# EAGLE library part DF17(*)-80DS-0.5V(57) (library Jack-connectors)
HIROSE DF17 series- 0,5 mm pitch, 80 pins board-to-board connector - Receptacle This connectors are available in different heighst Total height Part number 4 mm DF17(3.0H)-80DS-0.5V(57) 5 mm, 5.5 mm, 7 mm DF17(3.0)-80DS-0.5V(57) 6 mm, 6.5 mm, 8 mm DF17(4.0)-80DS-0.5V(57) !!!Warning!!! - Under connetor can't be placed any tracks or vias without resist, it could touch the connector contacts
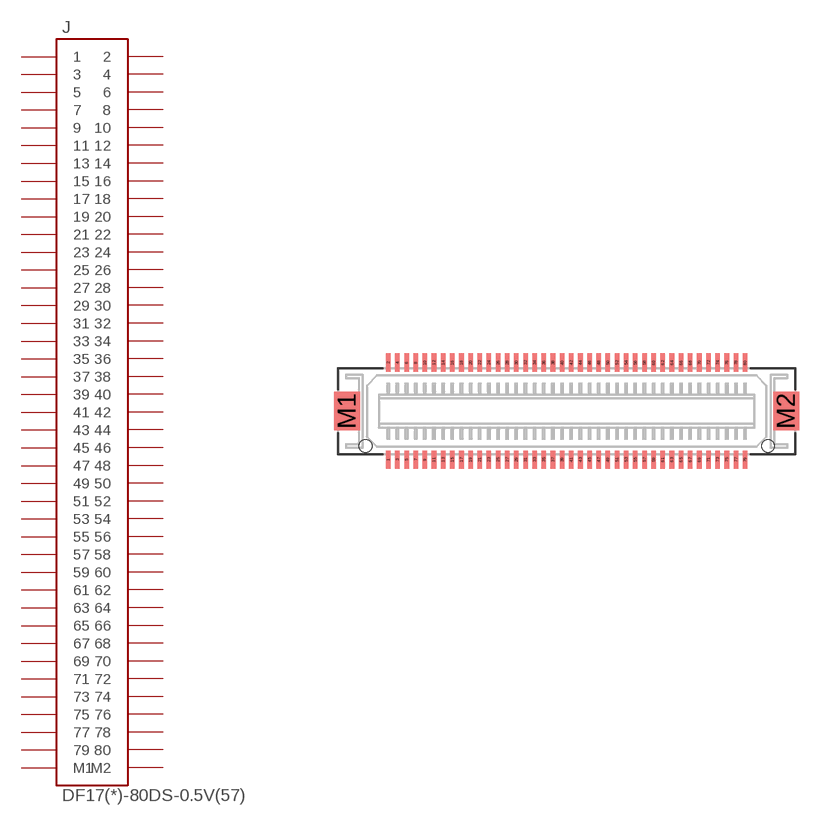
[diagram p3: symbol with the pads of DF17(XX)-80DS-0.5V; footprint DF17(XX)-80DS-0.5V]

Designator prefix J

## DF17(3.0)-80DS-0.5V(57) (DESCRIPTION: Board-to-Board connector, 0.5 mm pitch, 80 pins, 5/5.5/7 mm height, receptacle; PACK: DF17(XX)-80DS-0.5V), DF17(3.0H)-80DS-0.5V(57) (DESCRIPTION: Board-to-Board connector, 0.5 mm pitch, 80 pins, 4 mm height, receptacle; PACK: DF17(XX)-80DS-0.5V), DF17(4.0)-80DS-0.5V(57) (DESCRIPTION: Board-to-Board connector, 0.5 mm pitch, 80 pins, 6/6.5/8 mm height, receptacle; PACK: DF17(XX)-80DS-0.5V)  [DF17(XX)-80DS-0.5V]
1  1  pas
2  2  pas
3  3  pas
4  4  pas
5  5  pas
6  6  pas
7  7  pas
8  8  pas
9  9  pas
10  10  pas
11  11  pas
12  12  pas
13  13  pas
14  14  pas
15  15  pas
16  16  pas
17  17  pas
18  18  pas
19  19  pas
20  20  pas
21  21  pas
22  22  pas
23  23  pas
24  24  pas
25  25  pas
26  26  pas
27  27  pas
28  28  pas
29  29  pas
30  30  pas
31  31  pas
32  32  pas
33  33  pas
34  34  pas
35  35  pas
36  36  pas
37  37  pas
38  38  pas
39  39  pas
40  40  pas
41  41  pas
42  42  pas
43  43  pas
44  44  pas
45  45  pas
46  46  pas
47  47  pas
48  48  pas
49  49  pas
50  50  pas
51  51  pas
52  52  pas
53  53  pas
54  54  pas
55  55  pas
56  56  pas
57  57  pas
58  58  pas
59  59  pas
60  60  pas
61  61  pas
62  62  pas
63  63  pas
64  64  pas
65  65  pas
66  66  pas
67  67  pas
68  68  pas
69  69  pas
70  70  pas
71  71  pas
72  72  pas
73  73  pas
74  74  pas
75  75  pas
76  76  pas
77  77  pas
78  78  pas
79  79  pas
80  80  pas
M1  M1  pas
M2  M2  pas

## Footprint DF17(XX)-80DS-0.5V (pad centres in mm)
HIROSE DF17 series- 0,5 mm pitch, 80 pins board-to-board connector - Receptacle This connectors are available in different heighst Total height Part number 4 mm DF17(3.0H)-80DS-0.5V(57) 5 mm, 7 mm DF17(3.0)-80DS-0.5V(57) 6 mm, 8 mm DF17(4.0)-80DS-0.5V(57) !!!Warning!!! - Under connetor can't be placed any tracks or vias without resist, it could touch the connector contacts
smd 0.25 x 1: 1 -9.75,-2.65; 2 -9.75,2.65; 3 -9.25,-2.65; 4 -9.25,2.65; 5 -8.75,-2.65; 6 -8.75,2.65; 7 -8.25,-2.65; 8 -8.25,2.65; 9 -7.75,-2.65; 10 -7.75,2.65; 11 -7.25,-2.65; 12 -7.25,2.65; 13 -6.75,-2.65; 14 -6.75,2.65; 15 -6.25,-2.65; 16 -6.25,2.65; 17 -5.75,-2.65; 18 -5.75,2.65; 19 -5.25,-2.65; 20 -5.25,2.65; 21 -4.75,-2.65; 22 -4.75,2.65; 23 -4.25,-2.65; 24 -4.25,2.65; 25 -3.75,-2.65; 26 -3.75,2.65; 27 -3.25,-2.65; 28 -3.25,2.65; 29 -2.75,-2.65; 30 -2.75,2.65; 31 -2.25,-2.65; 32 -2.25,2.65; 33 -1.75,-2.65; 34 -1.75,2.65; 35 -1.25,-2.65; 36 -1.25,2.65; 37 -0.75,-2.65; 38 -0.75,2.65; 39 -0.25,-2.65; 40 -0.25,2.65; 41 0.25,-2.65; 42 0.25,2.65; 43 0.75,-2.65; 44 0.75,2.65; 45 1.25,-2.65; 46 1.25,2.65; 47 1.75,-2.65; 48 1.75,2.65; 49 2.25,-2.65; 50 2.25,2.65; 51 2.75,-2.65; 52 2.75,2.65; 53 3.25,-2.65; 54 3.25,2.65; 55 3.75,-2.65; 56 3.75,2.65; 57 4.25,-2.65; 58 4.25,2.65; 59 4.75,-2.65; 60 4.75,2.65; 61 5.25,-2.65; 62 5.25,2.65; 63 5.75,-2.65; 64 5.75,2.65; 65 6.25,-2.65; 66 6.25,2.65; 67 6.75,-2.65; 68 6.75,2.65; 69 7.25,-2.65; 70 7.25,2.65; 71 7.75,-2.65; 72 7.75,2.65; 73 8.25,-2.65; 74 8.25,2.65; 75 8.75,-2.65; 76 8.75,2.65; 77 9.25,-2.65; 78 9.25,2.65; 79 9.75,-2.65; 80 9.75,2.65
smd 1.4 x 2.1: M1 -12,0; M2 12,0
hole 0.7 at -11,-1.9
hole 0.7 at 11,-1.9